# Altium schematic symbol library PDTC143ZT.Schlib: 1 symbol
Pins are listed as number, name and electrical type; pins without a type are passive.

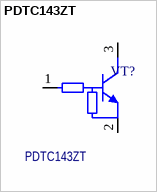
[diagram p0: symbol PDTC143ZT]

## PDTC143ZT
designator VT?
Digital Transistor (BRT), R1=4.7 kOhm, R2=47 kOhm, NPN Transistor, 3-Pin; Потребление, Вт: 0,001; Назначение: Digital Transistor (BRT), R1=4.7 kOhm, R2=47 kOhm, NPN Transistor, 3-Pin; ComponentLink1Description: Datasheet; ComponentLink1URL: https://assets.nexperia.com/documents/data-sheet/PDTC114E_SER.pdf; Наименование: PDTC143ZT
footprint SOT-323 (SC-70) (SOT23, 3-Leads, Body 2x1.25mm, Pitch 0.65mm)
footprint SOT-23
pins: 1 B, 2 E, 3 C